# Altium footprint library VW.PcbLib: 12 footprints
Each footprint in its own frame and in the unit in brackets; x right, y up, seen from the top. Pads: shape width x height; smd on the part's side, far side on the other; paste and mask are expansions set on the pad; w line width, h text height; cw(c..) or ccw(c..) is an arc to the next point about the centre after c.
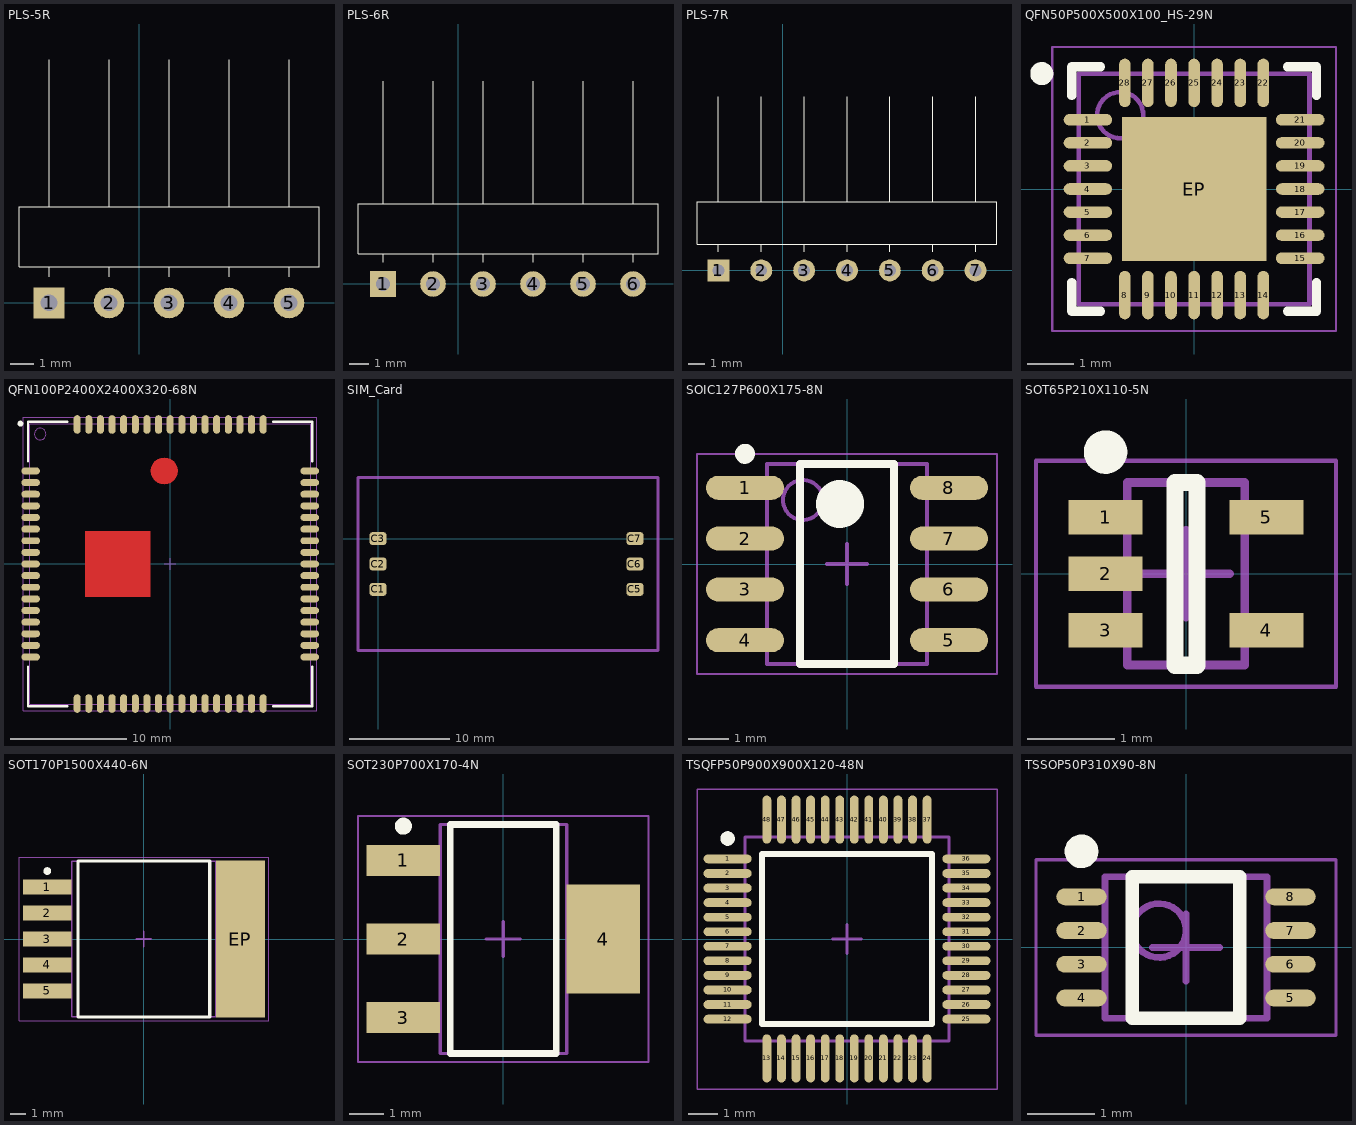
[diagram p0: the footprints below, top view; thin cyan lines are the x and y axes]

## PLS-5R [mm]
pads (5):
  rect 1.3x1.3 hole 0.7: 1(-3.81,0)
  round 1.3 hole 0.7: 2(-1.27,0) 3(1.27,0) 4(3.81,0) 5(6.35,0)
Top Overlay:
  lines w0.051: -3.81,1.1 -3.81,1.54 ; -3.81,4.08 -3.81,10.3 ; -1.27,1.1 -1.27,1.54 ; -1.27,4.08 -1.27,10.3 ; 1.27,1.1 1.27,1.54 ; 1.27,4.08 1.27,10.3 ; 3.81,1.1 3.81,1.54 ; 3.81,4.08 3.81,10.3 ; 6.35,1.1 6.35,1.54 ; 6.35,4.08 6.35,10.3 ; -5.08,1.54 7.62,1.54 7.62,4.08 -5.08,4.08 -5.08,1.54

## PLS-6R [mm]
pads (6):
  rect 1.3x1.3 hole 0.7: 1(-3.81,0)
  round 1.3 hole 0.7: 2(-1.27,0) 3(1.27,0) 4(3.81,0) 5(6.35,0) 6(8.89,0)
Top Overlay:
  lines w0.051: -3.81,1.1 -3.81,1.54 ; -3.81,4.08 -3.81,10.3 ; -1.27,1.1 -1.27,1.54 ; -1.27,4.08 -1.27,10.3 ; 1.27,1.1 1.27,1.54 ; 1.27,4.08 1.27,10.3 ; 3.81,1.1 3.81,1.54 ; 3.81,4.08 3.81,10.3 ; 6.35,1.1 6.35,1.54 ; 6.35,4.08 6.35,10.3 ; 8.89,1.1 8.89,1.54 ; 8.89,4.08 8.89,10.3 ; -5.08,1.54 -5.08,4.08 10.16,4.08 10.16,1.54 -5.08,1.54

## PLS-7R [mm]
pads (7):
  rect 1.3x1.3 hole 0.7: 1(-3.81,0)
  round 1.3 hole 0.7: 2(-1.27,0) 3(1.27,0) 4(3.81,0) 5(6.35,0) 6(8.89,0) 7(11.43,0)
Top Overlay:
  lines w0.051: -3.81,1.1 -3.81,1.54 ; -3.81,4.08 -3.81,10.3 ; -1.27,1.1 -1.27,1.54 ; -1.27,4.08 -1.27,10.3 ; 1.27,1.1 1.27,1.54 ; 1.27,4.08 1.27,10.3 ; 3.81,1.1 3.81,1.54 ; 3.81,4.08 3.81,10.3 ; 6.35,1.1 6.35,1.54 ; 6.35,4.08 6.35,10.3 ; 8.89,1.1 8.89,1.54 ; 8.89,4.08 8.89,10.3 ; 11.43,1.1 11.43,1.54 ; 11.43,4.08 11.43,10.3 ; -5.08,1.54 -5.08,4.08 12.7,4.08 12.7,1.54 -5.08,1.54

## QFN50P500X500X100_HS-29N [mm] "QFN, 28-Leads, Body 5,00x5,00mm, Pitch 0,50mm, Thermal Pad 3,13x3,13mm, IPC Medium Density"
height 1
pads (29):
  oval 1.05x0.25 smd: 1(-2.3,1.5) 2(-2.3,1) 3(-2.3,0.5) 4(-2.3,0) 5(-2.3,-0.5) 6(-2.3,-1) 7(-2.3,-1.5) 15(2.3,-1.5) 16(2.3,-1) 17(2.3,-0.5) 18(2.3,0) 19(2.3,0.5) 20(2.3,1) 21(2.3,1.5)
  oval 0.25x1.05 smd: 8(-1.5,-2.3) 9(-1,-2.3) 10(-0.5,-2.3) 11(0,-2.3) 12(0.5,-2.3) 13(1,-2.3) 14(1.5,-2.3) 22(1.5,2.3) 23(1,2.3) 24(0.5,2.3) 25(0,2.3) 26(-0.5,2.3) 27(-1,2.3) 28(-1.5,2.3)
  rect 3.13x3.13 smd: EP(0,0)
Top Overlay:
  circle w0.25: c-3.3,2.5 r0.125
  lines w0.2: -2.65,-2.025 -2.65,-2.65 -2.025,-2.65 ; -2.65,2.025 -2.65,2.65 -2.025,2.65 ; 2.025,-2.65 2.65,-2.65 2.65,-2.025 ; 2.025,2.65 2.65,2.65 2.65,2.025
Mechanical 13:
  circle w0.1: c-1.6,1.6 r0.5
  lines w0.1: -2.5,-2.5 2.5,-2.5 2.5,2.5 -2.5,2.5 -2.5,-2.5
Mechanical 15:
  lines w0.05: -3.075,-3.075 3.075,-3.075 3.075,3.075 -3.075,3.075 -3.075,-3.075
  lines w0.1: -0.5,0 0.5,0 ; 0,-0.5 0,0.5
3D body: height 1, standoff 0.11, extent -2.5,-2.5 2.5,2.5

## QFN100P2400X2400X320-68N [mm] "QFN, 68-Leads, Body 24,00x24,00mm, Pitch 1,00mm, IPC Medium Density"
height 3.2
pads (68):
  oval 1.6x0.6 smd: 1(-12,8) 2(-12,7) 3(-12,6) 4(-12,5) 5(-12,4) 6(-12,3) 7(-12,2) 8(-12,1) 9(-12,0) 10(-12,-1) 11(-12,-2) 12(-12,-3) 13(-12,-4) 14(-12,-5) 15(-12,-6) 16(-12,-7) 17(-12,-8) 35(12,-8) 36(12,-7) 37(12,-6) 38(12,-5) 39(12,-4) 40(12,-3) 41(12,-2) 42(12,-1) 43(12,0) 44(12,1) 45(12,2) 46(12,3) 47(12,4) 48(12,5) 49(12,6) 50(12,7) 51(12,8)
  oval 0.6x1.6 smd: 18(-8,-12) 19(-7,-12) 20(-6,-12) 21(-5,-12) 22(-4,-12) 23(-3,-12) 24(-2,-12) 25(-1,-12) 26(0,-12) 27(1,-12) 28(2,-12) 29(3,-12) 30(4,-12) 31(5,-12) 32(6,-12) 33(7,-12) 34(8,-12) 52(8,12) 53(7,12) 54(6,12) 55(5,12) 56(4,12) 57(3,12) 58(2,12) 59(1,12) 60(0,12) 61(-1,12) 62(-2,12) 63(-3,12) 64(-4,12) 65(-5,12) 66(-6,12) 67(-7,12) 68(-8,12)
Top Layer:
  pour cut-out: -7.3,2.8 -1.7,2.8 -1.7,-2.8 -7.3,-2.8
  pour cut-out: -1.661,8.001 -1.622,7.703 -1.506,7.425 -1.323,7.186 -1.084,7.003 -0.806,6.887 -0.508,6.848 -0.21,6.887 0.068,7.003 0.307,7.186 0.49,7.425 0.606,7.703 0.645,8.001 0.606,8.299 0.49,8.577 0.307,8.816 0.068,8.999 -0.21,9.115 -0.508,9.154 -0.806,9.115 -1.084,8.999 -1.323,8.816 -1.506,8.577 -1.622,8.299
Top Overlay:
  circle w0.25: c-12.875,12.075 r0.125
  lines w0.2: -12.225,-8.85 -12.225,-12.225 -8.85,-12.225 ; -12.225,8.85 -12.225,12.225 -8.85,12.225 ; 8.85,-12.225 12.225,-12.225 12.225,-8.85 ; 8.85,12.225 12.225,12.225 12.225,8.85
Mechanical 13:
  circle w0.1: c-11.175,11.175 r0.5
  lines w0.1: -12.075,-12.075 -12.075,12.075 12.075,12.075 12.075,-12.075 -12.075,-12.075
Mechanical 15:
  lines w0.05: -12.625,-12.625 -12.625,12.625 12.625,12.625 12.625,-12.625 -12.625,-12.625
  lines w0.1: -0.5,0 0.5,0 ; 0,-0.5 0,0.5
3D body: height 3.2, standoff 0, extent -12.075,-12.075 12.075,12.075

## SIM_Card [mm]
pads (6):
  rrect50% 1.7x1.3 smd: C1(0,-5.08) C2(0,-2.54) C3(0,0) C5(25.7,-5.08) C6(25.7,-2.54) C7(25.7,0)
Mechanical 15:
  lines w0.254: -2,-11.19 28,-11.19 28,6.11 -2,6.11 -2,-11.19

## SOIC127P600X175-8N [mm] "SOIC, 8-Leads, Body 4,90x3,90mm, Pitch 1,27mm, IPC Medium Density"
height 1.75
pads (8):
  oval 1.95x0.6 smd: 1(-2.55,1.905) 2(-2.55,0.635) 3(-2.55,-0.635) 4(-2.55,-1.905) 5(2.55,-1.905) 6(2.55,-0.635) 7(2.55,0.635) 8(2.55,1.905)
Top Overlay:
  circle w0.25: c-2.55,2.755 r0.125
  circle w0.6: c-0.175,1.5 r0.3
  lines w0.2: -1.175,-2.5 -1.175,2.5 1.175,2.5 1.175,-2.5 -1.175,-2.5
Mechanical 13:
  circle w0.1: c-1.1,1.6 r0.5
  lines w0.1: -2,-2.5 -2,2.5 2,2.5 2,-2.5 -2,-2.5
Mechanical 15:
  lines w0.05: -3.75,-2.75 -3.75,2.75 3.75,2.75 3.75,-2.75 -3.75,-2.75
  lines w0.1: -0.5,0 0.5,0 ; 0,-0.5 0,0.5
3D body: height 1.75, standoff 0.1, extent -2,-2.5 2,2.5

## SOT65P210X110-5N [mm] "SOT23, 5-Leads, Body 2,00x2,10mm, Pitch 0,65mm, IPC Medium Density"
height 1.1
pads (5):
  rect 0.85x0.4 smd: 1(-0.925,0.65) 2(-0.925,0) 3(-0.925,-0.65) 4(0.925,-0.65) 5(0.925,0.65)
Top Overlay:
  circle w0.25: c-0.925,1.4 r0.125
  lines w0.2: -0.127,-1.05 -0.127,1.05 0.127,1.05 0.127,-1.05 -0.127,-1.05
Mechanical 13:
  lines w0.1: -0.675,-1.05 0.675,-1.05 0.675,1.05 -0.675,1.05 -0.675,-1.05
Mechanical 15:
  lines w0.05: -1.725,-1.3 1.725,-1.3 1.725,1.3 -1.725,1.3 -1.725,-1.3
  lines w0.1: -0.5,0 0.5,0 ; 0,-0.5 0,0.5
3D body: height 1.1, standoff 0, extent -0.675,-1.05 0.675,1.05

## SOT170P1500X440-6N [mm] "SOT223, 6-Leads, Body 10,00x15,00mm (avg), Pitch 1,70mm, IPC Medium Density"
height 4.4
pads (6):
  rect 3.2x1 smd: 1(-6.325,3.4) 2(-6.325,1.7) 3(-6.325,0) 4(-6.325,-1.7) 5(-6.325,-3.4)
  rect 3.2x10.3 smd: EP(6.325,0)
Top Overlay:
  circle w0.25: c-6.325,4.45 r0.125
  lines w0.2: -4.318,-5.1 4.318,-5.1 4.318,5.1 -4.318,5.1 -4.318,-5.1
Mechanical 13:
  lines w0.1: -4.725,-5.1 4.725,-5.1 4.725,5.1 -4.725,5.1 -4.725,-5.1
Mechanical 15:
  lines w0.05: -8.175,-5.35 8.175,-5.35 8.175,5.35 -8.175,5.35 -8.175,-5.35
  lines w0.1: -0.5,0 0.5,0 ; 0,-0.5 0,0.5
3D body: height 4.4, standoff 0.1, extent -4.725,-5.1 4.725,5.1

## SOT230P700X170-4N [mm] "SOT223, 4-Leads, Body 6,50x7,00mm (avg), Pitch 2,30mm, IPC Medium Density"
height 1.7
pads (4):
  rect 2.15x0.9 smd: 1(-2.925,2.3) 2(-2.925,0) 3(-2.925,-2.3)
  rect 2.15x3.2 smd: 4(2.925,0)
Top Overlay:
  circle w0.25: c-2.925,3.3 r0.125
  lines w0.2: -1.55,-3.35 1.55,-3.35 1.55,3.35 -1.55,3.35 -1.55,-3.35
Mechanical 13:
  lines w0.1: -1.85,-3.35 1.85,-3.35 1.85,3.35 -1.85,3.35 -1.85,-3.35
Mechanical 15:
  lines w0.05: -4.25,-3.6 4.25,-3.6 4.25,3.6 -4.25,3.6 -4.25,-3.6
  lines w0.1: -0.5,0 0.5,0 ; 0,-0.5 0,0.5
3D body: height 1.7, standoff 0, extent -1.85,-3.35 1.85,3.35

## TSQFP50P900X900X120-48N [mm] "TSQFP, 48-Leads, Body 7,00x7,00mm, Pitch 0,50mm, IPC Medium Density"
height 1.2
pads (48):
  oval 1.65x0.3 smd: 1(-4.1,2.75) 2(-4.1,2.25) 3(-4.1,1.75) 4(-4.1,1.25) 5(-4.1,0.75) 6(-4.1,0.25) 7(-4.1,-0.25) 8(-4.1,-0.75) 9(-4.1,-1.25) 10(-4.1,-1.75) 11(-4.1,-2.25) 12(-4.1,-2.75) 25(4.1,-2.75) 26(4.1,-2.25) 27(4.1,-1.75) 28(4.1,-1.25) 29(4.1,-0.75) 30(4.1,-0.25) 31(4.1,0.25) 32(4.1,0.75) 33(4.1,1.25) 34(4.1,1.75) 35(4.1,2.25) 36(4.1,2.75)
  oval 0.3x1.65 smd: 13(-2.75,-4.1) 14(-2.25,-4.1) 15(-1.75,-4.1) 16(-1.25,-4.1) 17(-0.75,-4.1) 18(-0.25,-4.1) 19(0.25,-4.1) 20(0.75,-4.1) 21(1.25,-4.1) 22(1.75,-4.1) 23(2.25,-4.1) 24(2.75,-4.1) 37(2.75,4.1) 38(2.25,4.1) 39(1.75,4.1) 40(1.25,4.1) 41(0.75,4.1) 42(0.25,4.1) 43(-0.25,4.1) 44(-0.75,4.1) 45(-1.25,4.1) 46(-1.75,4.1) 47(-2.25,4.1) 48(-2.75,4.1)
Top Overlay:
  circle w0.25: c-4.1,3.45 r0.125
  lines w0.2: -2.921,-2.921 2.921,-2.921 2.921,2.921 -2.921,2.921 -2.921,-2.921
Mechanical 13:
  lines w0.1: -3.5,-3.5 3.5,-3.5 3.5,3.5 -3.5,3.5 -3.5,-3.5
Mechanical 15:
  lines w0.05: -5.15,-5.15 5.15,-5.15 5.15,5.15 -5.15,5.15 -5.15,-5.15
  lines w0.1: -0.5,0 0.5,0 ; 0,-0.5 0,0.5
3D body: height 1.2, standoff 0.05, extent -3.5,-3.5 3.5,3.5

## TSSOP50P310X90-8N [mm] "TSSOP, 8-Leads, Body 2,00x2,30mm, Pitch 0,50mm, IPC Medium Density"
height 0.9
pads (8):
  oval 0.75x0.25 smd: 1(-1.55,0.75) 2(-1.55,0.25) 3(-1.55,-0.25) 4(-1.55,-0.75) 5(1.55,-0.75) 6(1.55,-0.25) 7(1.55,0.25) 8(1.55,0.75)
Top Overlay:
  circle w0.25: c-1.55,1.425 r0.125
  lines w0.2: -0.8,-1.05 -0.8,1.05 0.8,1.05 0.8,-1.05 -0.8,-1.05
Mechanical 13:
  circle w0.1: c-0.4,0.25 r0.4
  lines w0.1: -1.2,-1.05 -1.2,1.05 1.2,1.05 1.2,-1.05 -1.2,-1.05
Mechanical 15:
  lines w0.05: -2.225,-1.3 -2.225,1.3 2.225,1.3 2.225,-1.3 -2.225,-1.3
  lines w0.1: -0.5,0 0.5,0 ; 0,-0.5 0,0.5
3D body: height 0.9, standoff 0.1, extent -1.2,-1.05 1.2,1.05